# Altium schematic symbol library CMSH3-40MA_TR13_PBFREE.SchLib: 1 symbol
Pins are listed as number, name and electrical type; pins without a type are passive.

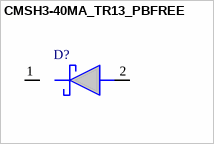
[diagram p0: symbol CMSH3-40MA_TR13_PBFREE]

## CMSH3-40MA_TR13_PBFREE
designator D?
SURFACE MOUNT SILICON SCHOTTKY RECTIFIERS 3.0 AMP, 20 THRU 100 VOLT; Manufacturer_Name: Central Semiconductor; Manufacturer_Part_Number: CMSH3-40MA TR13 PBFREE; Geometry.Height: 2.62mm; Mouser Part Number: 610-CMSH3-40MA; Mouser Price/Stock: https://www.mouser.co.uk/ProductDetail/Central-Semiconductor/CMSH3-40MA-TR13-PBFREE?qs=u16ybLDytRbWQ%252BRmK%252B2%252Bgg%3D%3D; Datasheet Link: https://www.arrow.com/en/products/cmsh3-40ma-tr13-pbfree/central-semiconductor
footprint DIOM5226X262N
pins: 1 K, 2 A